# EAGLE library part ETRX3587 (library circuit_tree)
IC
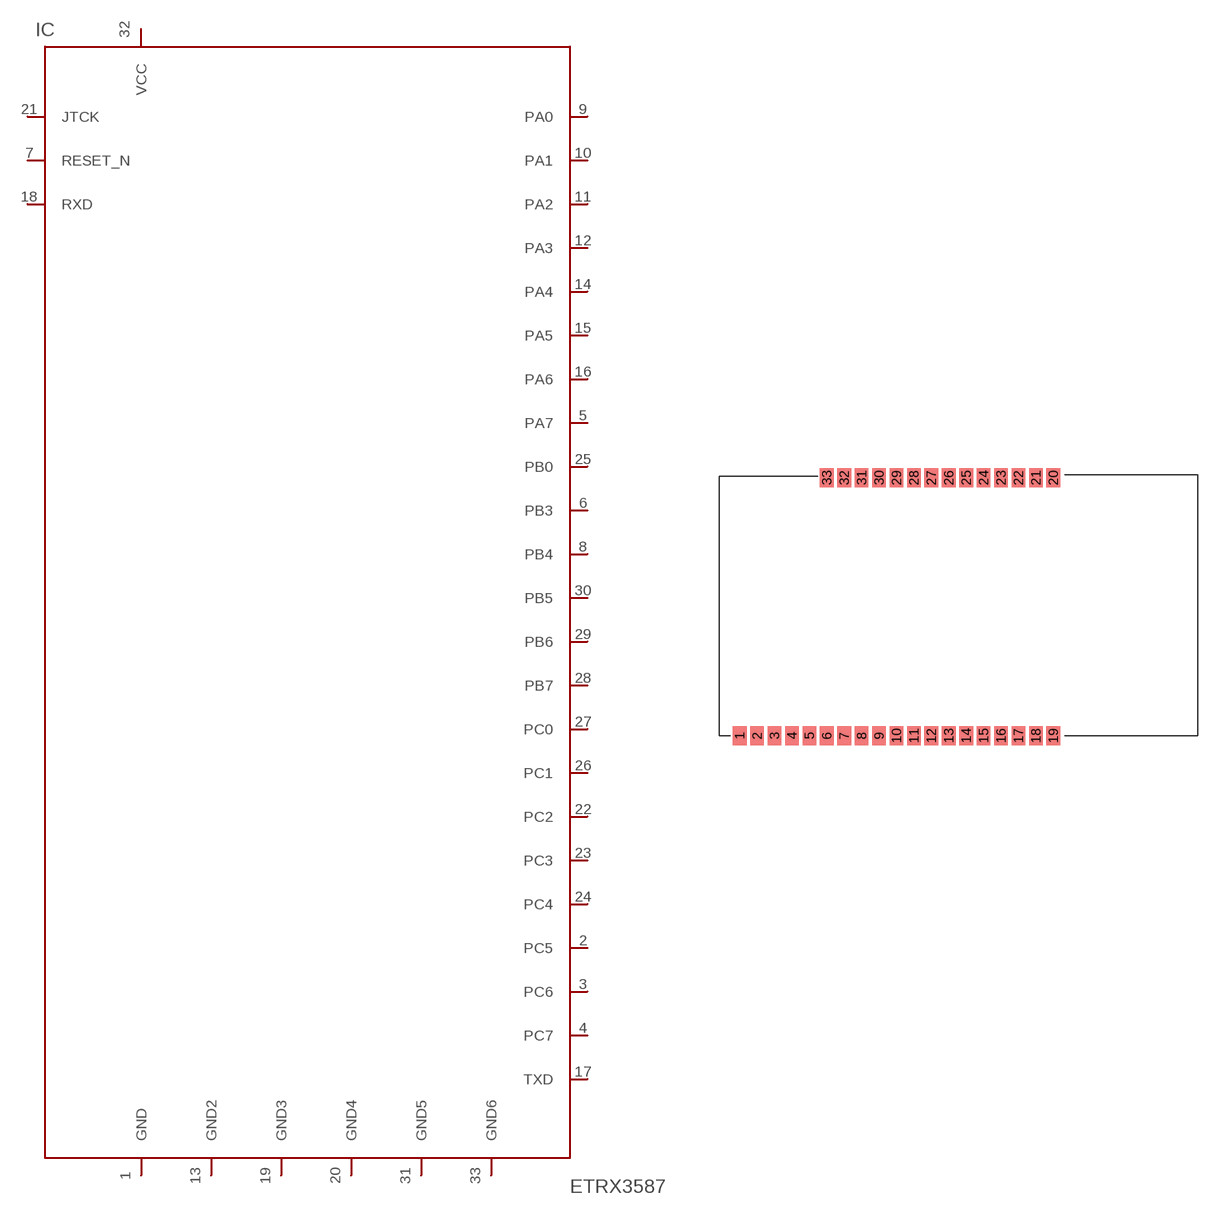
[diagram p2: symbol with the pads of ETRX3587; footprint ETRX3587]

Designator prefix IC

## ETRX3587  [ETRX3587]
1  GND  pas
2  PC5  pas
3  PC6  pas
4  PC7  pas
5  PA7  pas
6  PB3  pas
7  RESET_N  pas
8  PB4  pas
9  PA0  pas
10  PA1  pas
11  PA2  pas
12  PA3  pas
13  GND2  pas
14  PA4  pas
15  PA5  pas
16  PA6  pas
17  TXD  pas
18  RXD  pas
19  GND3  pas
20  GND4  pas
21  JTCK  pas
22  PC2  pas
23  PC3  pas
24  PC4  pas
25  PB0  pas
26  PC1  pas
27  PC0  pas
28  PB7  pas
29  PB6  pas
30  PB5  pas
31  GND5  pas
32  VCC  pas
33  GND6  pas

## Footprint ETRX3587 (pad centres in mm)
smd 1 x 1.4: 1 0,0; 2 1.27,0; 3 2.54,0; 4 3.81,0; 5 5.08,0; 6 6.35,0; 7 7.62,0; 8 8.89,0; 9 10.16,0; 10 11.43,0; 11 12.7,0; 12 13.97,0; 13 15.24,0; 14 16.51,0; 15 17.78,0; 16 19.05,0; 17 20.32,0; 18 21.59,0; 19 22.86,0; 20 22.86,18.8; 21 21.59,18.8; 22 20.32,18.8; 23 19.05,18.8; 24 17.78,18.8; 25 16.51,18.8; 26 15.24,18.8; 27 13.97,18.8; 28 12.7,18.8; 29 11.43,18.8; 30 10.16,18.8; 31 8.89,18.8; 32 7.62,18.8; 33 6.35,18.8